# Altium schematic symbol library Pushbutton.SchLib: 1 symbol
Pins are listed as number, name and electrical type; pins without a type are passive.

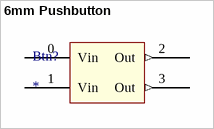
[diagram p0: symbol 6mm Pushbutton]

## 6mm Pushbutton
designator Btn?
footprint 6mm Pushbutton (Its a pushbutton.)
pins: 0 Vin (power), 1 Vin (power), 2 Out (out), 3 Out (out)